# Altium footprint library SOT-753.PcbLib: 1 footprints
Each footprint in its own frame and in the unit in brackets; x right, y up, seen from the top. Pads: shape width x height; smd on the part's side, far side on the other; paste and mask are expansions set on the pad; w line width, h text height; cw(c..) or ccw(c..) is an arc to the next point about the centre after c.
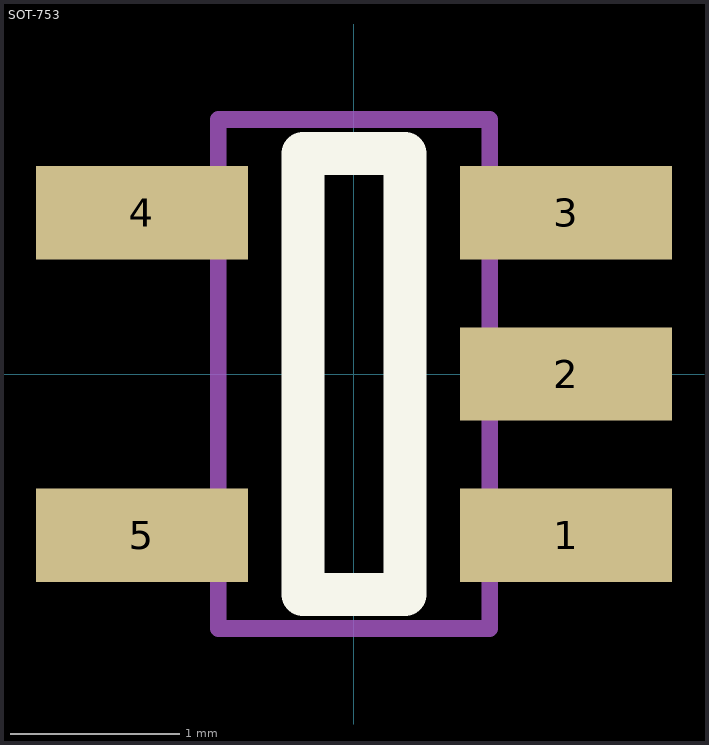
[diagram p0: the footprint, top view; thin cyan lines are the x and y axes]

## SOT-753 [mm]
pads (5):
  rect 1.25x0.55 smd: 1(1.25,-0.95) 2(1.25,0) 3(1.25,0.95) 4(-1.25,0.95) 5(-1.25,-0.95)
Top Overlay:
  lines w0.254: -0.3,-1.3 0.3,-1.3 0.3,1.3 -0.3,1.3 -0.3,-1.3
Mechanical 13:
  lines w0.1: -0.8,-1.5 -0.8,1.5 0.8,1.5 0.8,-1.5 -0.8,-1.5